# Altium footprint library 501951-3000.PcbLib: 1 footprints
Each footprint in its own frame and in the unit in brackets; x right, y up, seen from the top. Pads: shape width x height; smd on the part's side, far side on the other; paste and mask are expansions set on the pad; w line width, h text height; cw(c..) or ccw(c..) is an arc to the next point about the centre after c.
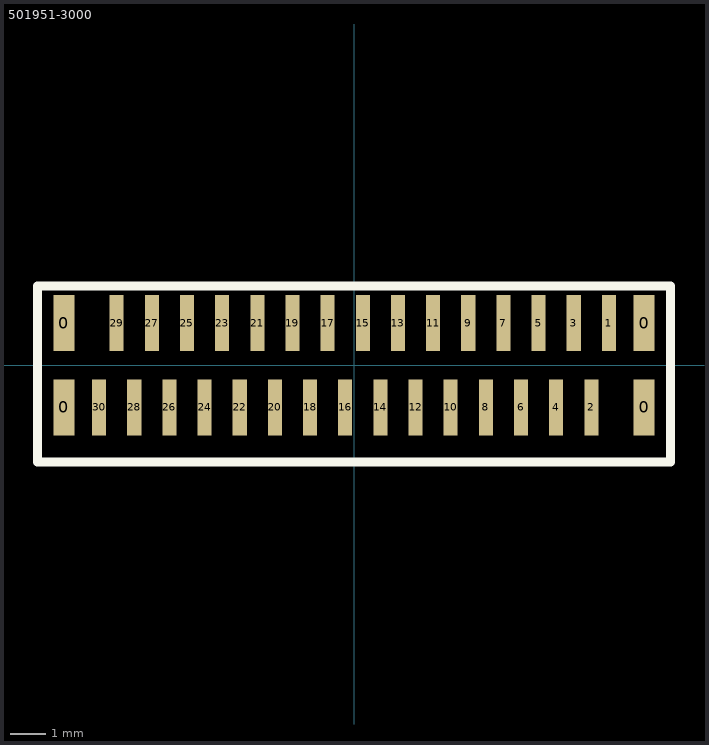
[diagram p0: the footprint, top view; thin cyan lines are the x and y axes]

## 501951-3000 [mm]
pads (34):
  rect 0.6x1.6 smd: 0(-8.25,-1.2) 0(-8.25,1.2) 0(8.25,-1.2) 0(8.25,1.2)
  rect 0.4x1.6 smd: 1(7.25,1.2) 2(6.75,-1.2) 3(6.25,1.2) 4(5.75,-1.2) 5(5.25,1.2) 6(4.75,-1.2) 7(4.25,1.2) 8(3.75,-1.2) 9(3.25,1.2) 10(2.75,-1.2) 11(2.25,1.2) 12(1.75,-1.2) 13(1.25,1.2) 14(0.75,-1.2) 15(0.25,1.2) 16(-0.25,-1.2) 17(-0.75,1.2) 18(-1.25,-1.2) 19(-1.75,1.2) 20(-2.25,-1.2) 21(-2.75,1.2) 22(-3.25,-1.2) 23(-3.75,1.2) 24(-4.25,-1.2) 25(-4.75,1.2) 26(-5.25,-1.2) 27(-5.75,1.2) 28(-6.25,-1.2) 29(-6.75,1.2) 30(-7.25,-1.2)
Top Overlay:
  lines w0.254: -9,-2.75 -9,2.25 9,2.25 9,-2.75 -9,-2.75
3D body: height 4.04, standoff -0.01, extent -8.9,-2.65 8.9,1.85